# EAGLE library part PCM4204 (library BurrBrownAudioParts)
PCM4204: High Performance 24-Bit 118dB, 216kHz Sampling Four-Chan Audio A/D Converter
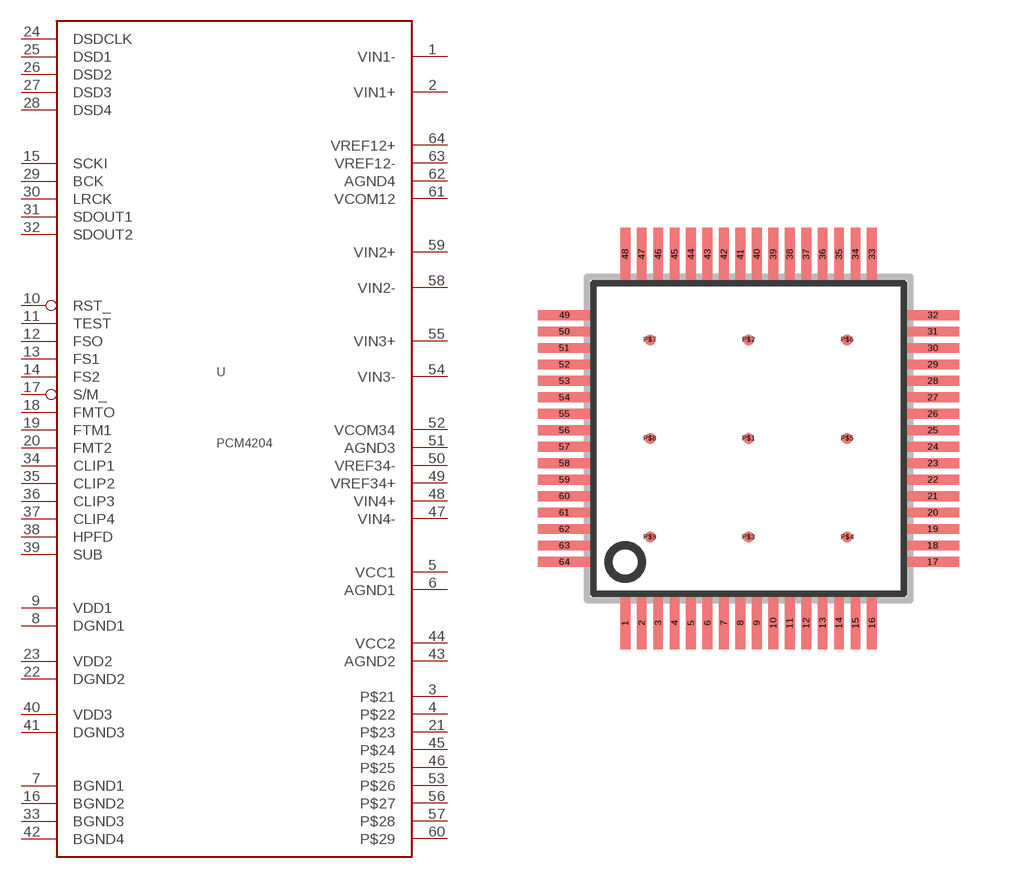
[diagram p1: symbol with the pads of SQFP-S-10X10-64; footprint SQFP-S-10X10-64]

Designator prefix -

## PCM4204  [SQFP-S-10X10-64]
1  VIN1-
2  VIN1+
3  P$21  nc
4  P$22  nc
5  VCC1
6  AGND1
7  BGND1
8  DGND1
9  VDD1
10  RST_
11  TEST
12  FSO
13  FS1
14  FS2
15  SCKI
16  BGND2
17  S/M_
18  FMTO
19  FTM1
20  FMT2
21  P$23  nc
22  DGND2
23  VDD2
24  DSDCLK
25  DSD1
26  DSD2
27  DSD3
28  DSD4
29  BCK
30  LRCK
31  SDOUT1
32  SDOUT2
33  BGND3
34  CLIP1
35  CLIP2
36  CLIP3
37  CLIP4
38  HPFD
39  SUB
40  VDD3
41  DGND3
42  BGND4
43  AGND2
44  VCC2
45  P$24  nc
46  P$25  nc
47  VIN4-
48  VIN4+
49  VREF34+
50  VREF34-
51  AGND3
52  VCOM34
53  P$26  nc
54  VIN3-
55  VIN3+
56  P$27  nc
57  P$28  nc
58  VIN2-
59  VIN2+
60  P$29  nc
61  VCOM12
62  AGND4
63  VREF12-
64  VREF12+

## Footprint SQFP-S-10X10-64 (pad centres in mm)
QFP64 shrink quad flat pack, square
smd 0.3 x 1.6: 1 -3.75,-5.6; 2 -3.25,-5.6; 3 -2.75,-5.6; 4 -2.25,-5.6; 5 -1.75,-5.6; 6 -1.25,-5.6; 7 -0.75,-5.6; 8 -0.25,-5.6; 9 0.25,-5.6; 10 0.75,-5.6; 11 1.25,-5.6; 12 1.75,-5.6; 13 2.25,-5.6; 14 2.75,-5.6; 15 3.25,-5.6; 16 3.75,-5.6; 33 3.75,5.6; 34 3.25,5.6; 35 2.75,5.6; 36 2.25,5.6; 37 1.75,5.6; 38 1.25,5.6; 39 0.75,5.6; 40 0.25,5.6; 41 -0.25,5.6; 42 -0.75,5.6; 43 -1.25,5.6; 44 -1.75,5.6; 45 -2.25,5.6; 46 -2.75,5.6; 47 -3.25,5.6; 48 -3.75,5.6
smd 1.6 x 0.3: 17 5.6,-3.75; 18 5.6,-3.25; 19 5.6,-2.75; 20 5.6,-2.25; 21 5.6,-1.75; 22 5.6,-1.25; 23 5.6,-0.75; 24 5.6,-0.25; 25 5.6,0.25; 26 5.6,0.75; 27 5.6,1.25; 28 5.6,1.75; 29 5.6,2.25; 30 5.6,2.75; 31 5.6,3.25; 32 5.6,3.75; 49 -5.6,3.75; 50 -5.6,3.25; 51 -5.6,2.75; 52 -5.6,2.25; 53 -5.6,1.75; 54 -5.6,1.25; 55 -5.6,0.75; 56 -5.6,0.25; 57 -5.6,-0.25; 58 -5.6,-0.75; 59 -5.6,-1.25; 60 -5.6,-1.75; 61 -5.6,-2.25; 62 -5.6,-2.75; 63 -5.6,-3.25; 64 -5.6,-3.75
smd 0.33 x 0.33: P$1 0,0; P$2 0,3; P$3 0,-3; P$4 3,-3; P$5 3,0; P$6 3,3; P$7 -3,3; P$8 -3,0; P$9 -3,-3